# EAGLE library part ESP32-WROOM-32U (library ESP32-WROOM-32U)
Wi-Fi/BT BLE Module ESP32-D0WD SPI Flash UART U.FL Conn.
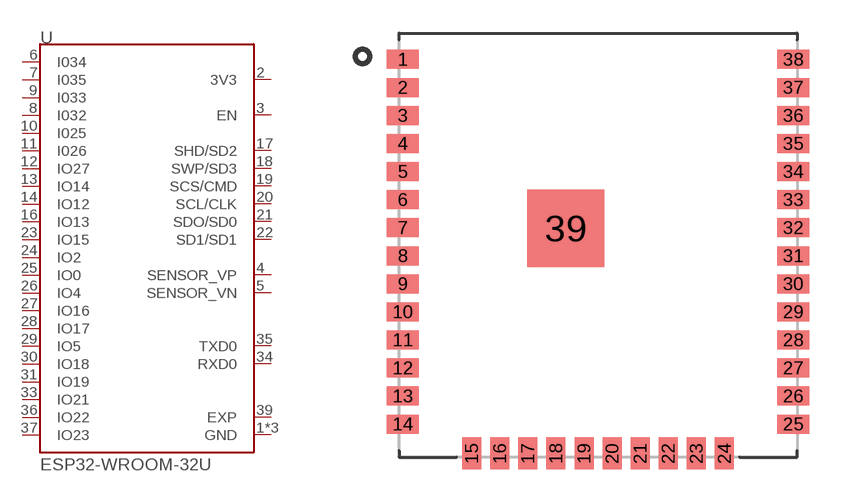
[diagram p0: symbol with the pads of XCVR_ESP32-WROOM-32U; footprint XCVR_ESP32-WROOM-32U]

Designator prefix U

## ESP32-WROOM-32U (Availability: Unavailable; Description: Wi-Fi/BT BLE Module ESP32-D0WD SPI Flash UART U.FL Conn.; MF: Espressif Systems; MP: ESP32-WROOM-32U; Package: Module Espressif Systems; Price: None)  [XCVR_ESP32-WROOM-32U]
1  GND  pwr
2  3V3  pwr
3  EN  in
4  SENSOR_VP  in
5  SENSOR_VN  in
6  I034  in
7  I035  in
8  I032
9  I033
10  I025
11  I026
12  IO27
13  IO14
14  IO12
15  GND  pwr
16  IO13
17  SHD/SD2
18  SWP/SD3
19  SCS/CMD
20  SCL/CLK
21  SDO/SD0
22  SD1/SD1
23  IO15
24  IO2
25  IO0
26  IO4
27  IO16
28  IO17
29  IO5
30  IO18
31  IO19
33  IO21
34  RXD0
35  TXD0
36  IO22
37  IO23
38  GND  pwr
39  EXP  pwr

## Footprint XCVR_ESP32-WROOM-32U (pad centres in mm)
smd 1.45 x 0.86: 1 -8.83,8.41; 2 -8.83,7.14; 3 -8.83,5.87; 4 -8.83,4.6; 5 -8.83,3.33; 6 -8.83,2.06; 7 -8.83,0.79; 8 -8.83,-0.48; 9 -8.83,-1.75; 10 -8.83,-3.02; 11 -8.83,-4.29; 12 -8.83,-5.56; 13 -8.83,-6.83; 14 -8.83,-8.1; 25 8.83,-8.1; 26 8.83,-6.83; 27 8.83,-5.56; 28 8.83,-4.29; 29 8.83,-3.02; 30 8.83,-1.75; 31 8.83,-0.48; 32 8.83,0.79; 33 8.83,2.06; 34 8.83,3.33; 35 8.83,4.6; 36 8.83,5.87; 37 8.83,7.14; 38 8.83,8.41
smd 0.86 x 1.45: 15 -5.715,-9.43; 16 -4.445,-9.43; 17 -3.175,-9.43; 18 -1.905,-9.43; 19 -0.635,-9.43; 20 0.635,-9.43; 21 1.905,-9.43; 22 3.175,-9.43; 23 4.445,-9.43; 24 5.715,-9.43
smd 3.5 x 3.5: 39 -1.46,0.77